# Altium footprint library potentiometers.PcbLib: 25 footprints (part 2 of 2)
Each footprint in its own frame and in the unit in brackets; x right, y up, seen from the top. Pads: shape width x height; smd on the part's side, far side on the other; paste and mask are expansions set on the pad; w line width, h text height; cw(c..) or ccw(c..) is an arc to the next point about the centre after c.
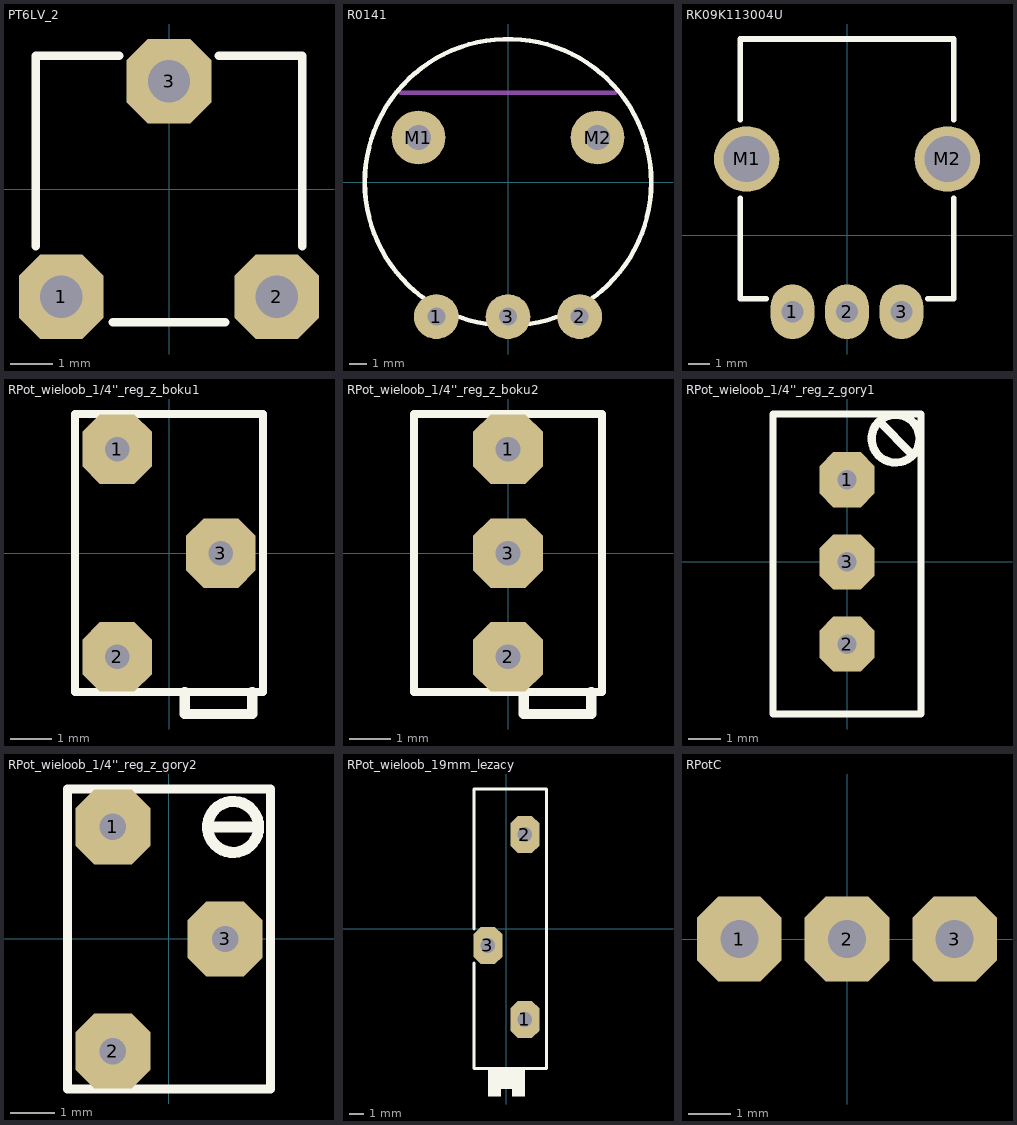
[diagram p1: the footprints below, top view; thin cyan lines are the x and y axes]

## PT6LV_2 [mm] "Piher trimming potentiometer: PT6-series"
height 4
pads (3):
  oct 2x2 hole 1: 1(-2.54,-2.54) 2(2.54,-2.54) 3(0,2.54)
Top Overlay:
  lines w0.2: -3.15,-1.35 -3.15,3.15 -1.175,3.15 ; -1.325,-3.15 1.325,-3.15 ; 1.175,3.15 3.15,3.15 3.15,-1.35
3D body "User Library-RES_PT6-3.step": height 4.05, standoff -3.24, extent -3.15,-3.15 3.15,3.15

## R0141 [mm] "16mm Potentiometer: mounting; single turn, horizontal; 30m"
pads (5):
  round 2.5 hole 1: 1(-4,-7.5) 2(4,-7.5) 3(0,-7.5)
  round 3 hole 1.4: M1(-5,2.5) M2(5,2.5)
Top Overlay:
  circle w0.254: c0,0 r8
Mechanical 1:
  lines w0.254: -6,5 6,5

## RK09K113004U [mm] "ALPS RK09K 9mm Size Insulated Shaft Snap-in Type Potentiometer"
pads (5):
  oval 2x2.5 hole 1: 1(-2.5,-3.5) 2(0,-3.5) 3(2.5,-3.5)
  round 3 hole 2.1: M1(-4.6,3.5) M2(4.6,3.5)
Top Overlay:
  lines w0.254: -4.9,1.7 -4.9,-2.9 -3.7,-2.9 ; -4.9,5.3 -4.9,9 4.9,9 4.9,5.3 ; 3.7,-2.9 4.9,-2.9 4.9,1.7
3D body "RK09K1130-15.STEP": height 15, standoff -3.7, extent -5.7,-3.65 5.698,9

## RPot_wieloob_1/4''_reg_z_boku1 [mm]
height 6.4
pads (3):
  oct 1.7x1.7 hole 0.6: 1(-1.27,2.54) 2(-1.27,-2.54) 3(1.27,0)
Top Overlay:
  lines w0.203: -2.3,-3.4 -2.3,3.4 2.3,3.4 2.3,-3.4 -2.3,-3.4
  lines w0.254: 0.381,-3.4 0.381,-3.937 2.032,-3.937 2.032,-3.4

## RPot_wieloob_1/4''_reg_z_boku2 [mm]
height 6.4
pads (3):
  oct 1.7x1.7 hole 0.6: 1(0,2.54) 2(0,-2.54) 3(0,0)
Top Overlay:
  lines w0.203: -2.3,-3.4 -2.3,3.4 2.3,3.4 2.3,-3.4 -2.3,-3.4
  lines w0.254: 0.381,-3.4 0.381,-3.937 2.032,-3.937 2.032,-3.4

## RPot_wieloob_1/4''_reg_z_gory1 [mm]
height 6.4
pads (3):
  oct 1.7x1.7 hole 0.6: 1(0,2.54) 2(0,-2.54) 3(0,0)
Top Overlay:
  circle w0.254: c1.502,3.81 r0.74
  lines w0.203: -2.286,-4.699 2.286,-4.699 2.286,4.572 -2.286,4.572 -2.286,-4.699
  lines w0.254: 1.016,4.318 1.968,3.365
3D body "SW3dPS-Potenciometro Vertical.STEP": height 12.06, standoff -5.44, extent -2.387,-4.625 2.413,4.575

## RPot_wieloob_1/4''_reg_z_gory2 [mm]
height 6.4
pads (3):
  oct 1.7x1.7 hole 0.6: 1(-1.27,2.54) 2(-1.27,-2.54) 3(1.27,0)
Top Overlay:
  circle w0.254: c1.454,2.54 r0.578
  lines w0.203: -2.3,-3.4 2.3,-3.4 2.3,3.4 -2.3,3.4 -2.3,-3.4
  lines w0.254: 0.889,2.54 2.032,2.54

## RPot_wieloob_19mm_lezacy [mm]
height 6.4
pads (3):
  oct 2x2.54 hole 1: 1(1.27,-6.223) 2(1.27,6.477) 3(-1.27,-1.143)
Top Overlay:
  region: 1.27,-11.505 1.27,-9.6 0.381,-9.6 0.381,-11.505
  region: -0.381,-11.505 -0.381,-9.6 -1.27,-9.6 -1.27,-11.505
  region: 0.381,-10.997 0.381,-9.6 -0.381,-9.6 -0.381,-10.997
  lines w0.203: -2.235,-2.337 -2.235,-9.576 2.769,-9.576 2.769,9.601 -2.235,9.601 -2.235,-0.025
3D body "User Library-Trimmer_Resistor_2.step": height 6.43, standoff -5.25, extent -2.159,-11.047 2.671,9.523

## RPotC [mm] "Potentiometr on cable"
height 7
pads (3):
  oct 2x2 hole 0.9: 1(-2.54,0) 2(0,0) 3(2.54,0)